# Altium footprint library Resistors.PcbLib: 4 footprints
Each footprint in its own frame and in the unit in brackets; x right, y up, seen from the top. Pads: shape width x height; smd on the part's side, far side on the other; paste and mask are expansions set on the pad; w line width, h text height; cw(c..) or ccw(c..) is an arc to the next point about the centre after c.
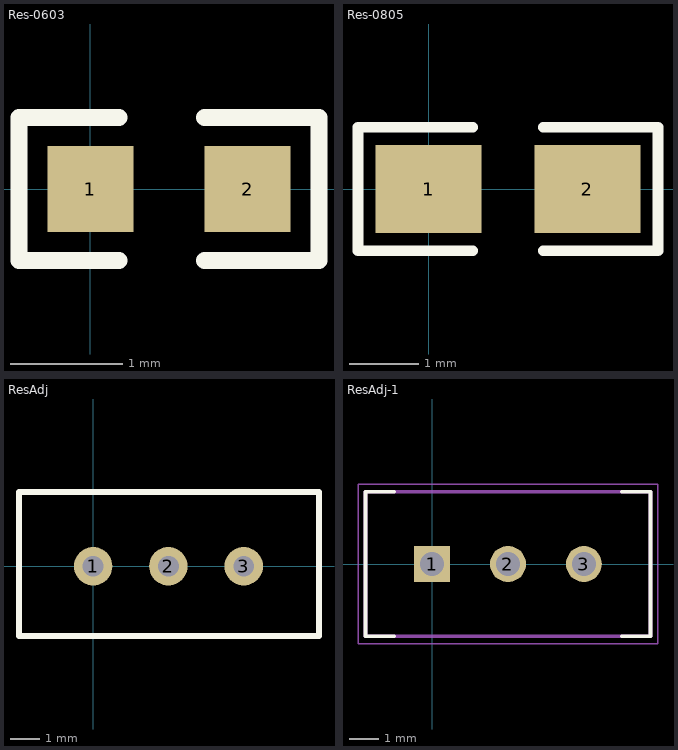
[diagram p0: the footprints below, top view; thin cyan lines are the x and y axes]

## Res-0603 [mil]
pads (2):
  rect 30x30 smd: 1(0,0) 2(55,0)
Top Overlay:
  lines w6: 10,-25 -25,-25 -25,25 10,25 ; 40,-25 80,-25 80,25 40,25

## Res-0805 [mil]
pads (2):
  rect 60x50 smd: 1(0,0) 2(90,0)
Top Overlay:
  lines w6: 25,-35 -40,-35 -40,35 25,35 ; 65,-35 130,-35 130,35 65,35

## ResAdj [mm]
pads (3):
  round 1.3 hole 0.7: 1(0,0) 2(2.54,0) 3(5.08,0)
Top Overlay:
  lines w0.2: -2.5,-2.35 7.62,-2.35 7.62,2.5 -2.5,2.5 -2.5,-2.35

## ResAdj-1 [mm]
pads (3):
  rect 1.2x1.2 hole 0.8 paste-1.2: 1(0,0)
  round 1.2 hole 0.8 paste-1.2: 2(2.54,0) 3(5.08,0)
Top Overlay:
  lines w0.12: -1.27,-2.42 -2.23,-2.42 -2.23,2.42 -1.27,2.42 ; 6.35,-2.42 7.31,-2.42 7.31,2.42 6.35,2.42
Mechanical 11:
  lines w0.12: -2.23,-2.42 7.31,-2.42 7.31,2.42 -2.23,2.42 -2.23,-2.42
Mechanical 12:
  circle w0.025: c5.08,0 r0.3
  circle w0.025: c2.54,0 r0.3
  circle w0.025: c0,0 r0.3
  lines w0.025: -2.225,-2.415 7.305,-2.415 7.305,2.415 -2.225,2.415 -2.225,-2.415
Mechanical 15:
  circle w0.05: c0,0 r0.25
  lines w0.05: -0.35,0 0.35,0 ; 0,-0.35 0,0.35 ; -2.48,-2.67 7.56,-2.67 7.56,2.67 -2.48,2.67 -2.48,-2.67
Mechanical 16:
  text ".Designator" at 0,0 h1.2